# Altium footprint library joystick.PcbLib: 1 footprints
Each footprint in its own frame and in the unit in brackets; x right, y up, seen from the top. Pads: shape width x height; smd on the part's side, far side on the other; paste and mask are expansions set on the pad; w line width, h text height; cw(c..) or ccw(c..) is an arc to the next point about the centre after c.
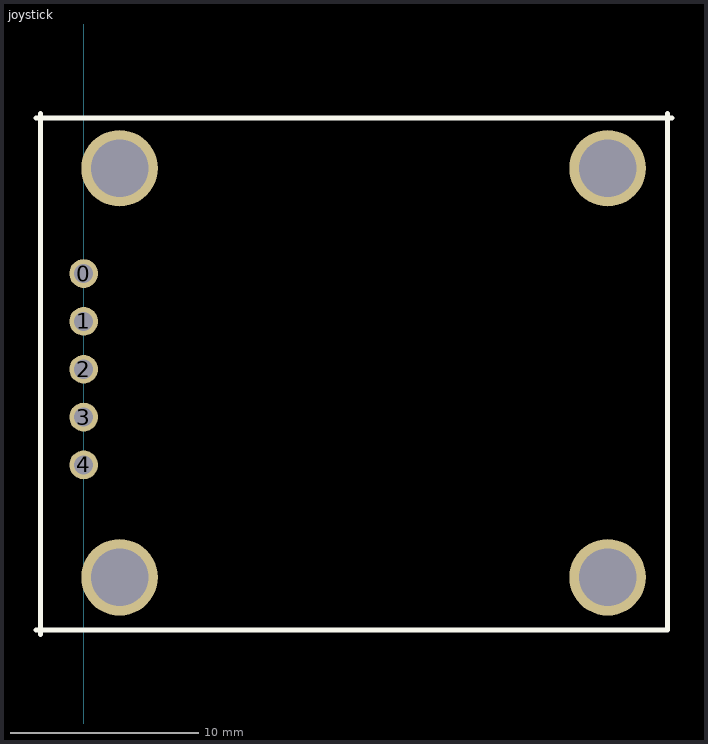
[diagram p0: the footprint, top view; thin cyan lines are the x and y axes]

## joystick [mil]
pads (9):
  round 60 hole 40: 0(0,-535) 1(0,-635) 2(0,-735) 3(0,-835) 4(0,-935)
  round 160 hole 120: ""(75,-1170) ""(75,-315) ""(1095,-1170) ""(1095,-315)
Top Overlay:
  lines w10: -100,-1280 -80,-1280 ; -100,-210 -80,-210 ; -90,-1290 -90,-1270 ; -90,-220 -90,-200 ; 1210,-210 1230,-210 ; 1220,-220 1220,-200 ; -90,-1280 -90,-210 1220,-210 1220,-1280 -90,-1280
3D body "joy_stick_2a.step": height 1287.72, standoff -35.12, extent -332.97,-1281.41 1232.97,-195